# EAGLE library part MSS-2235S (library MSS-2235S)
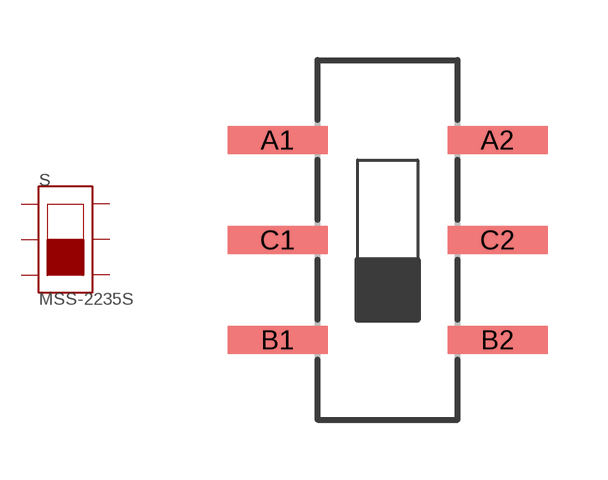
[diagram p0: symbol with the pads of MSS-2235S; footprint MSS-2235S]

Designator prefix S

## MSS-2235S  [MSS-2235S]
A1  A1
A2  A2
B1  B1
B2  B2
C1  C1
C2  C2

## Footprint MSS-2235S (pad centres in mm)
smd 2.5 x 0.7: A1 -2.75,2.5; A2 2.75,2.5; B1 -2.75,-2.5; B2 2.75,-2.5; C1 -2.75,0; C2 2.75,0